# Altium schematic symbol library ConnectMedical.SchLib: 88 symbols
Pins are listed as number, name and electrical type; pins without a type are passive.

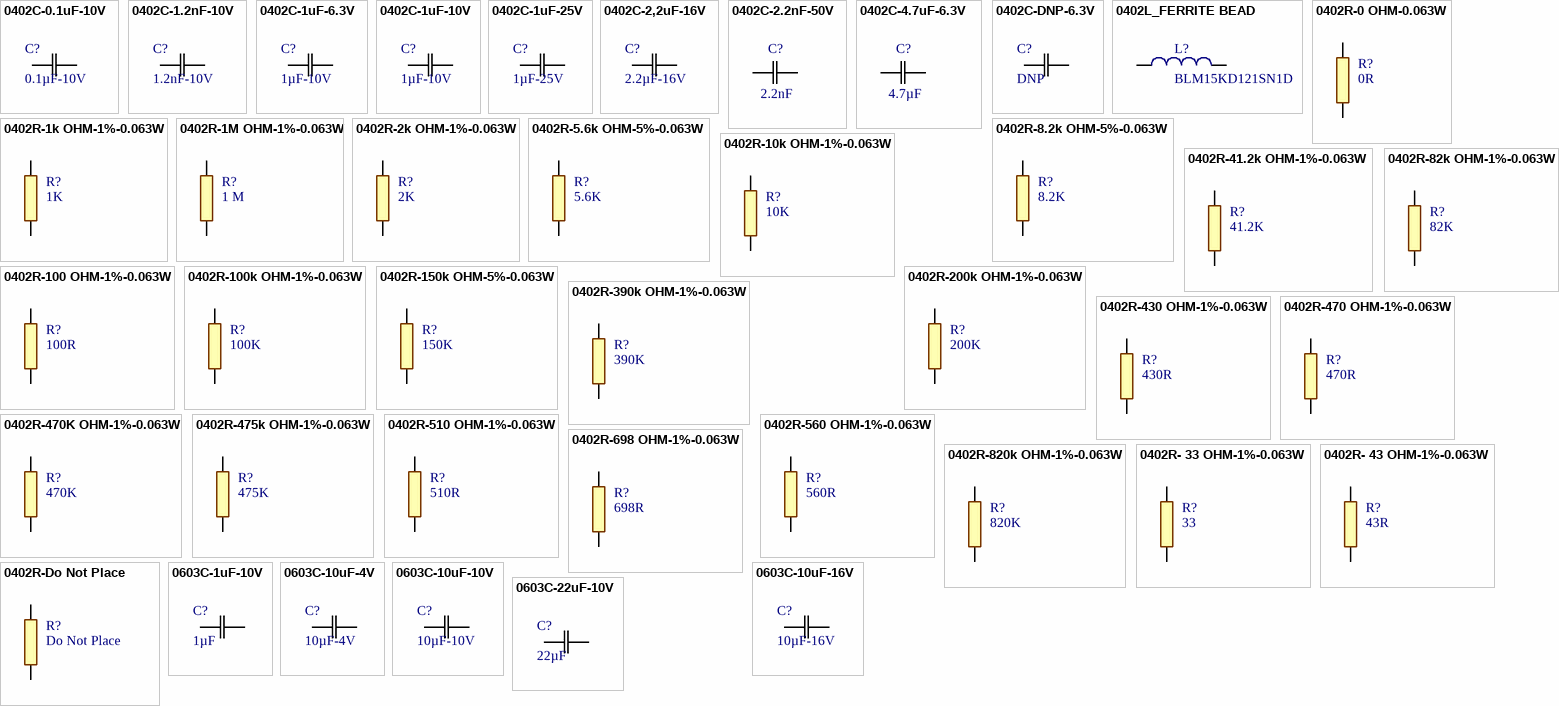
[diagram p0: symbols 0402C-0.1uF-10V to 0603C-22uF-10V]

## 0402C-0.1uF-10V
designator C?, comment 0.1µF-10V
0.1µF ±10% 10V X5R Ceramic Capacitor 0402; Manufacturer Part Number: CC0402KRX5R6BB104; Manufacturer: Yageo; Capacitance: 0.1µF; Digi-Key Part Number: 311-1336-1-ND; PackageReference: 0402; Temperature Coefficient: X5R; Tolerance: 10%; Voltage - Rated: 10V
footprint 0402C_HIGH_DENSITY
pins: 1, 2

## 0402C-1.2nF-10V
designator C?, comment 1.2nF-10V
1.2nF ±10% 10V U2J Ceramic Capacitor 0402; Manufacturer Part Number: GRM1557U1A122JA01D; Manufacturer: Murata Electronics North America; Tolerance: 5%; Capacitance: 1.2nF; Digi-Key Part Number: 490-6272-1-ND; PackageReference: 0402; Temperature Coefficient: U2J; Voltage - Rated: 10V
footprint 0402C_HIGH_DENSITY
pins: 1, 2

## 0402C-1uF-6.3V
designator C?, comment 1µF-10V
1µF ±10% 6.3V X5R Ceramic Capacitor 0402; Manufacturer Part Number: JMK105BJ105KV-F; Manufacturer: Taiyo Yuden; Capacitance: 1µF; Digi-Key Part Number: 587-1231-1-ND; PackageReference: 0402; Temperature Coefficient: X5R; Tolerance: 10%; Voltage - Rated: 6.3V
footprint 0402C-GENERIC (Chip Capacitor, 2-Leads, Body 1.00x0.50mm, IPC Medium Density)
pins: 1, 2

## 0402C-1uF-10V
designator C?, comment 1µF-10V
1µF ±10% 10V X5R Ceramic Capacitor 0402; Manufacturer Part Number: CC0402KRX5R6BB105; Manufacturer: Yageo; Capacitance: 1µF; Digi-Key Part Number: 311-1439-1-ND; PackageReference: 0402; Temperature Coefficient: X5R; Tolerance: 10%; Voltage - Rated: 10V
footprint 0402C_HIGH_DENSITY
pins: 1, 2

## 0402C-1uF-25V
designator C?, comment 1µF-25V
CAP CER 1UF 25V X5R 0402; Manufacturer Part Number: TMK105BJ105KV-F; Manufacturer: Taiyo Yuden; Capacitance: 1µF; Tolerance: 10%; Digi-Key Part Number: 587-5947-1-ND; PackageReference: 0402; Temperature Coefficient: X5R; Voltage - Rated: 25V
footprint 0402C_HIGH_DENSITY
pins: 1, 2

## 0402C-2,2uF-16V
designator C?, comment 2.2µF-16V
CAP CER 2.2UF 16V X5R 0402; Manufacturer Part Number: GRM155R61C225KE44D; Manufacturer: Murata Electronics North America; Capacitance: 2.2µF; Tolerance: 10%; Digi-Key Part Number: 490-10455-2-ND; PackageReference: 0402; Temperature Coefficient: X5R; Voltage - Rated: 16V
footprint 0402C_HIGH_DENSITY
pins: 1, 2

## 0402C-2.2nF-50V
designator C?, comment 2.2nF
2.2nF ±10% 50V X5R Ceramic Capacitor 0402; Manufacturer Part Number: GRM155R61H222KA01D; Manufacturer: Murata Electronics North America; Capacitance: 2.2nF; Digi-Key Part Number: 490-8257-1-ND; PackageReference: 0402; Temperature Coefficient: X5R; Tolerance: 10%; Voltage - Rated: 50V
footprint 0402C_HIGH_DENSITY
pins: 1, 2

## 0402C-4.7uF-6.3V
designator C?, comment 4.7µF
4.7µF ±10% 6.3V X5R Ceramic Capacitor 0402; Manufacturer Part Number: C1005X5R0J475K050BC; Manufacturer: TDK Corporation; Capacitance: 4.7µF; Digi-Key Part Number: 445-5947-1-ND; PackageReference: 0402; Temperature Coefficient: X5R; Tolerance: 10%; Voltage - Rated: 6.3V
footprint 0402C_HIGH_DENSITY
pins: 1, 2

## 0402C-DNP-6.3V
designator C?, comment DNP  (no BOM)
Temperature Coefficient: X5R; Tolerance: 10%; Voltage - Rated: 6.3V; Capacitance: DNP; PackageReference: 0402
footprint 0402C-GENERIC (Chip Capacitor, 2-Leads, Body 1.00x0.50mm, IPC Medium Density)
pins: 1, 2

## 0402L_FERRITE BEAD
designator L?, comment BLM15KD121SN1D
FERRITE BEAD 120 OHM 0402 1LN; Manufacturer: Murata Electronics North America; Number of Lines: 1; Current Rating (Max): 1.5A; Impedance @ Frequency: 120 Ohm @ 100MHz; DC Resistance (DCR) (Max): 70 mOhm; Filter Type: Signal Line; Digi-Key Part Number: 490-15015-1-ND; Manufacturer Part Number: BLM15KD121SN1D; ComponentLink1Description: Datasheet; ComponentLink1URL: http://www.murata.com/en-us/products/productdata/8796740059166/ENFA0018.pdf; PackageReference: 0402 (1005 Metric)
footprint 0402L_High Speed (SMD EMI Suppression Ferrite  Bead, body 1.0mmx0.5mm)
pins: 1, 2

## 0402R-0 OHM-0.063W
designator R?, comment 0R
RES SMD 0.0OHM JUMPER 1/16W 0402; Manufacturer: Yageo; Manufacturer Part Number: RC0402JR-070RL; Resistance (Ohms): 0 Ohm; Power: 0.063W; GENERIC_OK: YES; Digi-Key Part Number: 311-0.0JRCT-ND; PackageReference: 0402; Features: Moisture Resistant
footprint 0402R-GENERIC (0402 RES)
pins: 1, 2

## 0402R-1k OHM-1%-0.063W
designator R?, comment 1K
RES SMD 1kOHM 1% 1/16W 0402; Manufacturer: Yageo; Manufacturer Part Number: RC0402FR-071KL; Power: 0.063W; GENERIC_OK: YES; Digi-Key Part Number: 311-1.00KLRCT-ND; Resistance (Ohms): 1KOhm; Tolerance: 1%; PackageReference: 0402
footprint 0402R-GENERIC (0402 RES)
pins: 1, 2

## 0402R-1M OHM-1%-0.063W
designator R?, comment 1 M
RES SMD 1M OHM 1% 1/16W 0402; Manufacturer: Yageo; Manufacturer Part Number: RC0402FR-071ML; Resistance (Ohms): 1 MOhms; Power: 0.063W; GENERIC_OK: YES; Digi-Key Part Number: 311-1.00MLRTR-ND; Tolerance: 1%; PackageReference: 0402
footprint 0402R-GENERIC (0402 RES)
pins: 1, 2

## 0402R-2k OHM-1%-0.063W
designator R?, comment 2K
RES SMD 2kOHM 1% 1/16W 0402; Manufacturer: Yageo; Manufacturer Part Number: RC0402FR-072KL; Power: 0.063W; GENERIC_OK: YES; Digi-Key Part Number: 311-2KLRCT-ND; Resistance (Ohms): 2KOhm; Tolerance: 1%; PackageReference: 0402; Features: Moisture Resistant
footprint 0402R-GENERIC (0402 RES)
pins: 1, 2

## 0402R-5.6k OHM-5%-0.063W
designator R?, comment 5.6K
RES SMD 5.6kOHM 5% 1/16W 0402; Manufacturer: Yageo; Manufacturer Part Number: RC0402JR-075K6L; Power: 0.063W; GENERIC_OK: YES; Digi-Key Part Number: 311-5.6KJRCT-ND; Resistance (Ohms): 5.6KOhm; Tolerance: 5%; PackageReference: 0402
footprint 0402R-GENERIC (0402 RES)
pins: 1, 2

## 0402R-8.2k OHM-5%-0.063W
designator R?, comment 8.2K
RES SMD 8.2kOHM 5% 1/16W 0402; Manufacturer: Yageo; Manufacturer Part Number: RC0402JR-078K2L; Power: 0.063W; GENERIC_OK: YES; Digi-Key Part Number: 311-8.2KJRCT-ND; Resistance (Ohms): 8.2KOhm; Tolerance: 5%; PackageReference: 0402
footprint 0402R-GENERIC (0402 RES)
pins: 1, 2

## 0402R-10k OHM-1%-0.063W
designator R?, comment 10K
RES SMD 10kOHM 1% 1/16W 0402; Manufacturer: Yageo; Manufacturer Part Number: RC0402FR-0710KL; Power: 0.063W; GENERIC_OK: YES; Digi-Key Part Number: 311-10.0KLRCT-ND; Resistance (Ohms): 10KOhm; Tolerance: 1%; PackageReference: 0402; Features: Moisture Resistant
footprint 0402R-GENERIC (0402 RES)
pins: 1, 2

## 0402R-41.2k OHM-1%-0.063W
designator R?, comment 41.2K
RES SMD 41.2kOHM 1% 1/16W 0402; Manufacturer: Yageo; Manufacturer Part Number: RC0402FR-0741K2L; Power: 0.063W; GENERIC_OK: YES; Digi-Key Part Number: YAG3155CT-ND; Resistance (Ohms): 41.2KOhm; Tolerance: 1%; PackageReference: 0402
footprint 0402R-GENERIC (0402 RES)
pins: 1, 2

## 0402R-82k OHM-1%-0.063W
designator R?, comment 82K
RES SMD 82kOHM 1% 1/16W 0402; Manufacturer: Yageo; Manufacturer Part Number: RC0402FR-0782KL; Power: 0.063W; GENERIC_OK: YES; Digi-Key Part Number: 311-82.0KLRCT-ND; Resistance (Ohms): 82KOhm; Tolerance: 1%; PackageReference: 0402
footprint 0402R-GENERIC (0402 RES)
pins: 1, 2

## 0402R-100 OHM-1%-0.063W
designator R?, comment 100R
RES SMD 100OHM 1% 1/16W 0402; Manufacturer: Yageo; Manufacturer Part Number: RC0402FR-07100RL; Power: 0.063W; GENERIC_OK: YES; Digi-Key Part Number: 311-100LRCT-ND; Resistance (Ohms): 100Ohm; Tolerance: 1%; PackageReference: 0402; Features: Moisture Resistant
footprint 0402R-GENERIC (0402 RES)
pins: 1, 2

## 0402R-100k OHM-1%-0.063W
designator R?, comment 100K
RES SMD 100K OHM 1% 1/16W 0402; Manufacturer: Yageo; Manufacturer Part Number: RC0402FR-07100KL; Power: 0.063W; GENERIC_OK: YES; Digi-Key Part Number: 311-100KLRTR-ND; Resistance (Ohms): 100KOhm; Tolerance: 1%; PackageReference: 0402; Features: Moisture Resistant
footprint 0402R-GENERIC (0402 RES)
pins: 1, 2

## 0402R-150k OHM-5%-0.063W
designator R?, comment 150K
RES SMD 150kOHM 5% 1/16W 0402; Manufacturer: Yageo; Manufacturer Part Number: RC0402JR-07150KL; Power: 0.063W; GENERIC_OK: YES; Digi-Key Part Number: 311-150KJRCT-ND; Resistance (Ohms): 150KOhm; Tolerance: 5%; PackageReference: 0402; Features: Moisture Resistant
footprint 0402R-GENERIC (0402 RES)
pins: 1, 2

## 0402R-200k OHM-1%-0.063W
designator R?, comment 200K
RES SMD 200kOHM 1% 1/16W 0402; Manufacturer: Yageo; Manufacturer Part Number: AC0402FR-07200KL; Power: 0.063W; GENERIC_OK: YES; Digi-Key Part Number: YAG3452CT-ND; Resistance (Ohms): 200KOhm; Tolerance: 1%; PackageReference: 0402; Features: Moisture Resistant
footprint 0402R-GENERIC (0402 RES)
pins: 1, 2

## 0402R-390k OHM-1%-0.063W
designator R?, comment 390K
RES SMD 390kOHM 1% 1/16W 0402; Manufacturer: Yageo; Manufacturer Part Number: RC0402FR-07390KL; Power: 0.063W; GENERIC_OK: YES; Digi-Key Part Number: YAG3143CT-ND; Resistance (Ohms): 390KOhm; Tolerance: 1%; PackageReference: 0402; Features: Moisture Resistant
footprint 0402R-GENERIC (0402 RES)
pins: 1, 2

## 0402R-430 OHM-1%-0.063W
designator R?, comment 430R
RES SMD 430 OHM 0.1% 1/16W 0402; Manufacturer: Yageo; Manufacturer Part Number: RT0402BRD07430RL; Resistance (Ohms): 430Ohm; Tolerance: 1%; Power: 0.063W; GENERIC_OK: YES; Digi-Key Part Number: YAG1430CT-ND; PackageReference: 0402; Features: Moisture Resistant
footprint 0402R-GENERIC (0402 RES)
pins: 1, 2

## 0402R-470 OHM-1%-0.063W
designator R?, comment 470R
RES SMD 470 OHM 1% 1/16W 0402; Resistance (Ohms): 470 Ohm; Power: 0.063W; GENERIC_OK: YES; Tolerance: 1%; PackageReference: 0402; Features: Moisture Resistant
footprint 0402R-GENERIC (0402 RES)
pins: 1, 2

## 0402R-470K OHM-1%-0.063W
designator R?, comment 470K
RES SMD 470K OHM 1% 1/16W 0402; Power: 0.063W; GENERIC_OK: YES; Resistance (Ohms): 470KOhm; Tolerance: 1%; PackageReference: 0402; Features: Moisture Resistant
footprint 0402R-GENERIC (0402 RES)
pins: 1, 2

## 0402R-475k OHM-1%-0.063W
designator R?, comment 475K
RES SMD 475K OHM 1% 1/16W 0402; Manufacturer: Yageo; Manufacturer Part Number: RC0402FR-07475KL; Power: 0.063W; GENERIC_OK: YES; Digi-Key Part Number: 311-475KLRCT-ND; Resistance (Ohms): 475KOhm; Tolerance: 1%; PackageReference: 0402; Features: Moisture Resistant
footprint 0402R-GENERIC (0402 RES)
pins: 1, 2

## 0402R-510 OHM-1%-0.063W
designator R?, comment 510R
RES SMD 510OHM 1% 1/16W 0402; Power: 0.063W; GENERIC_OK: YES; Resistance (Ohms): 510Ohm; Tolerance: 1%; PackageReference: 0402; Features: Moisture Resistant
footprint 0402R-GENERIC (0402 RES)
pins: 1, 2

## 0402R-560 OHM-1%-0.063W
designator R?, comment 560R
RES SMD 560OHM 1% 1/16W 0402; Manufacturer: Samsung Electro-Mechanics America, Inc.; Manufacturer Part Number: RC1005F561CS; Power: 0.063W; GENERIC_OK: YES; Digi-Key Part Number: 1276-3473-1-ND; Resistance (Ohms): 560Ohm; Tolerance: 1%; PackageReference: 0402; Features: Moisture Resistant
footprint 0402R-GENERIC (0402 RES)
pins: 1, 2

## 0402R-698 OHM-1%-0.063W
designator R?, comment 698R
RES SMD 698 OHM 1% 1/16W 0402; Manufacturer: Yageo; Manufacturer Part Number: RC0402FR-07698RL; Resistance (Ohms): 698Ohm; Power: 0.063W; GENERIC_OK: YES; Digi-Key Part Number: YAG3215CT-ND; Tolerance: 1%; PackageReference: 0402; Features: Moisture Resistant
footprint 0402R-GENERIC (0402 RES)
pins: 1, 2

## 0402R-820k OHM-1%-0.063W
designator R?, comment 820K
RES SMD 820kOHM 1% 1/16W 0402; Manufacturer: Yageo; Manufacturer Part Number: RC0402FR-07820KL; Power: 0.063W; GENERIC_OK: YES; Digi-Key Part Number: YAG3240CT-ND; Resistance (Ohms): 820KOhm; Tolerance: 1%; PackageReference: 0402
footprint 0402R-GENERIC (0402 RES)
pins: 1, 2

## 0402R- 33 OHM-1%-0.063W
designator R?, comment 33
RES SMD  33 OHM 1% 1/16W 0402; Manufacturer: Yageo; Manufacturer Part Number: RC0402FR-0733RL; Resistance (Ohms): 33Ohm; Power: 0.063W; GENERIC_OK: YES; Digi-Key Part Number: 311-33.0LRCT-ND; Tolerance: 1%; PackageReference: 0402; Features: Moisture Resistant
footprint 0402R-GENERIC (0402 RES)
pins: 1, 2

## 0402R- 43 OHM-1%-0.063W
designator R?, comment 43R
RES SMD 43 OHM 5% 1/16W 0402; Manufacturer: Yageo; Manufacturer Part Number: RC0402JR-0743RL; Resistance (Ohms): 43Ohm; Tolerance: 1%; Power: 0.063W; GENERIC_OK: YES; Digi-Key Part Number: 311-43JRCT-ND; PackageReference: 0402; Features: Moisture Resistant
footprint 0402R-GENERIC (0402 RES)
pins: 1, 2

## 0402R-Do Not Place
designator R?, comment Do Not Place  (no BOM)
footprint 0402R-GENERIC - DNP (0402 RES DNP)
pins: 1, 2

## 0603C-1uF-10V
designator C?, comment 1µF
1µF ±10% 10V X7R Ceramic Capacitor 0603; Manufacturer Part Number: CL10B105KP8NNNC; Manufacturer: Samsung Electro-Mechanics America, Inc.; Capacitance: 1µF; Digi-Key Part Number: 1276-1946-1-ND; PackageReference: 0603; Temperature Coefficient: X7R; Tolerance: 10%; Voltage - Rated: 10V
footprint 0603C-GENERIC
pins: 1, 2

## 0603C-10uF-4V
designator C?, comment 10µF-4V
10µF ±10% 4V X6S Ceramic Capacitor 0603; Manufacturer Part Number: GRM188C80G106KE47D; Manufacturer: Murata Electronics North America; Capacitance: 10µF; Digi-Key Part Number: 490-10469-1-ND; PackageReference: 0603; Temperature Coefficient: X6S; Tolerance: 10%; Voltage - Rated: 4V
footprint 0603C-GENERIC
pins: 1, 2

## 0603C-10uF-10V
designator C?, comment 10µF-10V
10µF ±10% 10V X5R Ceramic Capacitor 0603; Manufacturer Part Number: GRM188R61A106KE69D; Manufacturer: Murata Electronics North America; Capacitance: 10µF; Digi-Key Part Number: 490-10474-1-ND; PackageReference: 0603; Temperature Coefficient: X5R; Tolerance: 10%; Voltage - Rated: 10V
footprint 0603C-GENERIC
pins: 1, 2

## 0603C-10uF-16V
designator C?, comment 10µF-16V
10µF ±10% 16V X5R Ceramic Capacitor 0603; Manufacturer Part Number: GRT188R61C106KE13D; Manufacturer: Murata Electronics North America; Capacitance: 10µF; Digi-Key Part Number: 490-12317-1-ND; PackageReference: 0603; Temperature Coefficient: X5R; Tolerance: 10%; Voltage - Rated: 16V; ClassName: 3D_IGNORE
footprint 0603C_HIGH_DENSITY
pins: 1, 2

## 0603C-22uF-10V
designator C?, comment 22µF
22µF ±20% 10V Ceramic Capacitor X5R 0603; Manufacturer Part Number: C1608X5R1A226M080AC; Manufacturer: TDK Corporation; Capacitance: 22µF; Digi-Key Part Number: 445-9077-2-ND; PackageReference: 0603; Temperature Coefficient: X5R; Tolerance: 20%; Voltage - Rated: 10V
footprint 0603C-GENERIC
pins: 1, 2

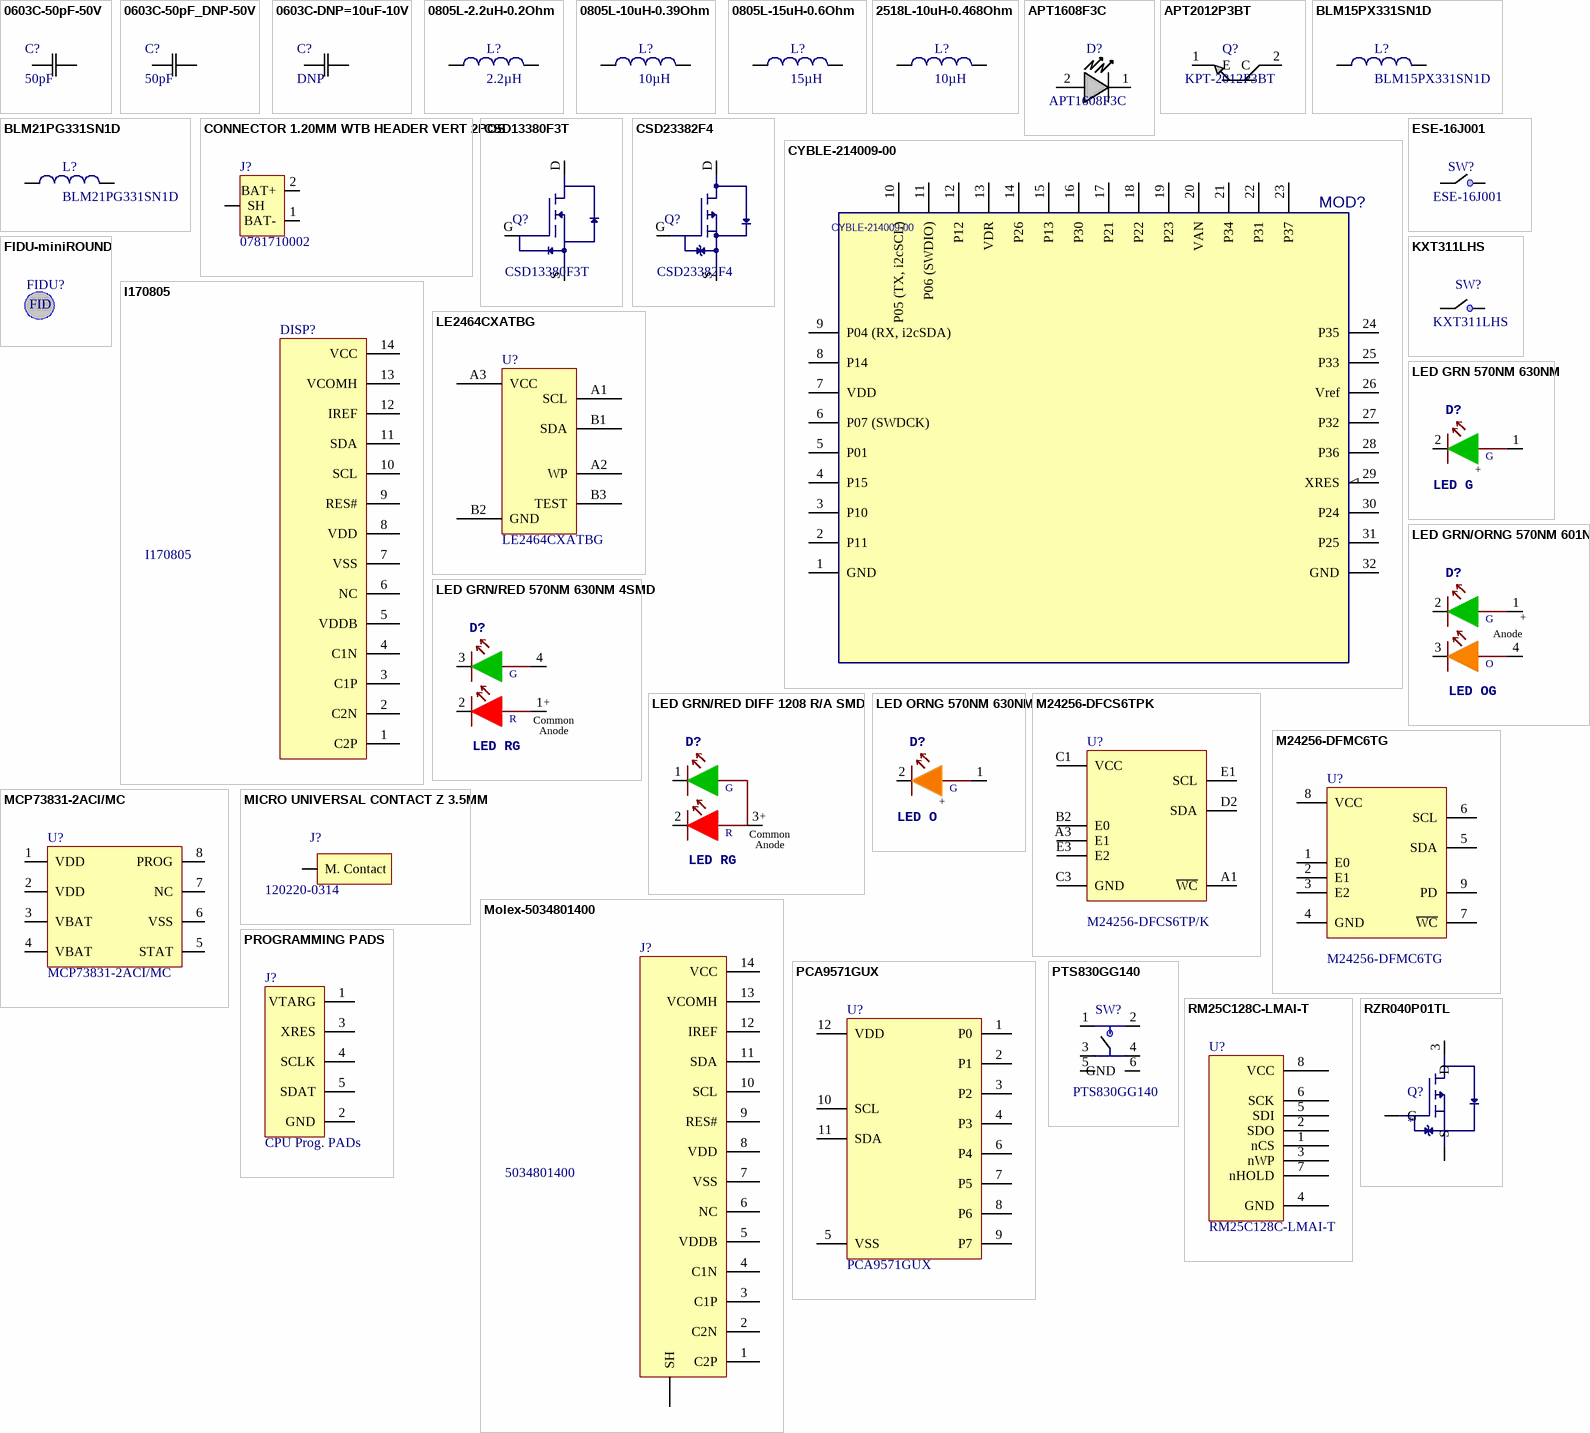
[diagram p1: symbols 0603C-50pF-50V to RZR040P01TL]

## 0603C-50pF-50V
designator C?, comment 50pF
CAP CER 50PF 50V NP0 0603; Manufacturer Part Number: 06035A500JAT2A; Manufacturer: AVX Corporation; Temperature Coefficient: C0G, NP0; Tolerance: ±5%; Capacitance: 50pF; Digi-Key Part Number: 478-10324-1-ND; PackageReference: 0603; Voltage - Rated: 50V
footprint 0603C_HIGH_DENSITY
pins: 1, 2

## 0603C-50pF_DNP-50V
designator C?, comment 50pF  (no BOM)
DNP; Manufacturer Part Number: 06035A500JAT2A; Manufacturer: AVX Corporation; Temperature Coefficient: C0G, NP0; Tolerance: ±5%; Voltage - Rated: 50V; Capacitance: 50pF; Digi-Key Part Number: 478-10324-1-ND; PackageReference: 0603
footprint 0603C_HIGH_DENSITY
pins: 1, 2

## 0603C-DNP=10uF-10V
designator C?, comment DNP
Manufacturer Part Number: GRM188R61A106KE69D; Manufacturer: Murata Electronics North America; Capacitance: 10µF; Temperature Coefficient: X5R; Tolerance: 10%; Voltage - Rated: 10V; Digi-Key Part Number: 490-10474-1-ND; PackageReference: 0603
footprint 0603C-GENERIC
pins: 1, 2

## 0805L-2.2uH-0.2Ohm
designator L?, comment 2.2µH  (graphical)
FIXED IND 2.2UH 600MA 0.2OHM SMD; Manufacturer: TDK Corporation; Manufacturer Part Number: MLZ2012M2R2HTD25; Number of Lines: 1; Tolerance: 20%; Digi-Key Part Number: 445-17077-1-ND; Impedance: 2.2µH; Current Rating (Max): 600mA; ComponentLink1Description: Datasheet; ComponentLink1URL: https://www.digikey.com/product-detail/en/tdk-corporation/MLZ2012M2R2HTD25/445-17077-2-ND/4743205; PackageReference: 0805
footprint 0805L_HIGH_DENSITY
pins: 1, 2

## 0805L-10uH-0.39Ohm
designator L?, comment 10µH
FIXED IND 10UH 500MA 300 MOHM; Manufacturer: TDK Corporation; Manufacturer Part Number: MLZ2012N100LT000; Number of Lines: 1; Current Rating (Max): 350mA; Tolerance: 20%; DCRDC Resistance (DCR): 390 mOhm Max; Digi-Key Part Number: 445-6762-1-ND; Impedance: 10µH; ComponentLink1Description: Datasheet; ComponentLink1URL: https://product.tdk.com/info/en/catalog/datasheets/inductor_commercial_decoupling_mlz2012_en.pdf; PackageReference: 0805
footprint 0805L_HIGH_DENSITY
pins: 1, 2

## 0805L-15uH-0.6Ohm
designator L?, comment 15µH
FIXED IND 15UH 350MA 0.6 OHM SMD; Manufacturer: TDK Corporation; Manufacturer Part Number: MLZ2012N150LT000; Number of Lines: 1; Tolerance: 20%; DCRDC Resistance (DCR): 611 mOhm Max; Digi-Key Part Number: 445-6763-1-ND; Impedance: 15µH; Current Rating (Max): 350mA; ComponentLink1Description: Datasheet; ComponentLink1URL: https://www.digikey.com/product-detail/en/tdk-corporation/MLZ2012N150LT000/445-6763-2-ND/2523501; PackageReference: 0805
footprint 0805L_HIGH_DENSITY
pins: 1, 2

## 2518L-10uH-0.468Ohm
designator L?, comment 10µH
FIXED IND 10UH 680MA 468 MOHM; Manufacturer: Taiyo Yuden; Manufacturer Part Number: CBC2518T100M; Tolerance: 20%; DCRDC Resistance (DCR): 468 mOhm Max; Digi-Key Part Number: 587-1613-1-ND; Impedance: 10µH; Current Rating (Max): 680mA; ComponentLink1Description: Datasheet; ComponentLink1URL: http://www.yuden.co.jp/productdata/catalog/en/wound02_e.pdf; PackageReference: 1007 (2518 Metric)
footprint 2518L_HIGH_DENSITY (Chip Inductor, 2-Leads, Body 2.50x1.80mm, IPC High Density)
pins: 1, 2

## APT1608F3C
designator D?
0603 INFRARED DIODE; Manufacturer: Kingbright; Wavelength: 940nm; Type: Infrared (IR); Current - DC Forward (If) (Max): 50mA; Radiant Intensity (Ie) Min @ If: 1.2mW/sr @ 20mA; Voltage - Forward (Vf) (Typ): 1.2V; Viewing Angle: 120°; Supplier 1: Digi-Key; Supplier Part Number 1: 754-1433-1-ND; Manufacturer Part Number: APT1608F3C; PackageReference: 0603; Mounting Type: Surface Mount; Operating Temperature: -40°C ~ 85°C (TA); ComponentLink1Description: Datasheet; ComponentLink1URL: http://www.kingbrightusa.com/images/catalog/SPEC/APT1608F3C.pdf; Digi-Key Part Number: 754-1433-1-ND; ClassName: 3D_EXPORT
footprint APT1608F3C (EMITTER IR 940NM 50MA 603)
pins: 1 K "Cathode", 2 "Anode"

## APT2012P3BT
designator Q?, comment KPT-2012P3BT
0805 PHOTOTRANSISTOR; Manufacturer: Kingbright; Voltage - Collector Emitter Breakdown (Max): 30V; Current - Collector (Ic) (Max): 1mA; Current - Dark (Id) (Max): 100nA; Power - Max: 100mW; Supplier 1: Digi-Key; Supplier Part Number 1: 754-1436-1-ND; ComponentLink1Description: Datasheet; ComponentLink1URL: https://www.kingbrightusa.com/images/catalog/spec/APT2012P3BT.pdf; Manufacturer Part Number: KPT-2012P3BT; PackageReference: 0805; Digi-Key Part Number: 754-1436-1-ND; ClassName: 3D_EXPORT
footprint APT2012P3BT
pins: 1 E "Emitter", 2 C "Collector"

## BLM15PX331SN1D
designator L?
0402 Ferrite Bead 330Ohm@100MHz; Manufacturer: Murata Electronics North America; Number of Lines: 1; Current Rating (Max): 1.2A; Filter Type: Power Line; Tolerance: ±5%; DC Resistance (DCR) (Max): 150 mOhm; Digi-Key Part Number: 490-11022-1-ND; Manufacturer Part Number: BLM15PX331SN1D; ComponentLink1Description: Datasheet; ComponentLink1URL: http://www.murata.com/en-global/products/productdata/8796733767710/S0580E.pdf; PackageReference: 0402 (1005 Metric); Impedance @ FRequency: 330 Ohm @ 100MHz
footprint 0402L_High Speed (SMD EMI Suppression Ferrite  Bead, body 1.0mmx0.5mm)
pins: 1, 2

## BLM21PG331SN1D
designator L?
0805 Ferrite Bead 330Ohm@100MHz; Manufacturer: Murata Electronics North America; Number of Lines: 1; Current Rating (Max): 1.5A; Filter Type: Power Line; DC Resistance (DCR) (Max): 70 mOhm; Digi-Key Part Number: 490-5988-1-ND; Manufacturer Part Number: BLM21PG331SN1D; ComponentLink1Description: Datasheet; ComponentLink1URL: http://www.murata.com/en-global/products/productdata/8796733767710/S0580E.pdf; PackageReference: 0805 (2012 Metric); Impedance @ FRequency: 330 Ohm @ 100MHz
footprint 0805L_HIGH_DENSITY - Hybrid 0402
pins: 1, 2

## CONNECTOR 1.20MM WTB HEADER VERT 2POS
designator J?, comment 0781710002
1.20MM WTB HEADER VERT 2POS; Manufacturer: Molex, LLC; ComponentLink1URL: http://www.molex.com/pdm_docs/sd/781710002_sd.pdf; ComponentLink1Description: Datasheet; Manufacturer Part Number: 0781710002; Mounting Type: Surface Mount; Digi-Key Part Number: WM4459CT-ND; ClassName: 3D_EXPORT
footprint PAD 0781710002 (PAD 1.20MM WTB HEADER VERT 2POS)
pins: 1 BAT-, 2 BAT+, 3 SH

## CSD13380F3T
designator Q?
12V N-CHANNEL FEMTOFET MOSFET; Manufacturer: Texas Instruments; Digi-Key Part Number: CSD13380F3T; Manufacturer Part Number: CSD13380F3T; FET Type: N-Channel; Package / Case: 3-XFDFN; ComponentLink1Description: Datasheet; ComponentLink1URL: http://www.ti.com/lit/ds/symlink/csd13380f3.pdf
footprint CSD13380F3-DFN40P69X35-3L (DFN, 3-Leads, Body 0.60x0.69mm, Pitch 0.40mm, IPC High Density)
pins: D 3, G 1, S 2

## CSD23382F4
designator Q?
MOSFET P-CH 12V 22A 3PICOSTAR; Manufacturer: Texas Instruments; FET Type: P-Channel; Digi-Key Part Number: 296-40003-1-ND; Manufacturer Part Number: CSD23382F4; Package / Case: 3-XFDFN; ComponentLink1Description: Datasheet; ComponentLink1URL: http://www.ti.com/lit/ds/symlink/csd23382f4.pdf
footprint CSD23382F4 -DFN65P100X35-3L (DFN, 3-Leads, Body 0.60x1.00mm, Pitch 0.65mm, IPC High Density)
pins: D 3, G 1, S 2

## CYBLE-214009-00
designator MOD?
BLE PSoC Module 4.1; Manufacturer: Cypress Semiconductor Corp; Protocol: Bluetooth v4.1; Frequency: 2.4GHz; Data Rate: 1Mbps; Power - Output: 3dBm; Sensitivity: -91dBm; Voltage - Supply: 1.7 V ~ 5.5 V; Current - Receiving: 16.4mA; Current - Transmitting: 15.6mA; Supplier 1: Digi-Key; Supplier Part Number 1: 428-3809-ND; ComponentLink1URL: http://www.cypress.com/file/223701/download; ComponentLink1Description: Datasheet; Manufacturer Part Number: CYBLE-214009-00; Digi-Key Part Number: 428-3809-ND; ClassName: 3D_EXPORT
footprint CYBLE-014008-00
footprint CYBLE-014008-00_MinKeepOut
pins: 1 GND (power), 2 P11 "GPIO-SCB1(SPI_SS1)", 3 P10 "GPIO", 4 P15 "GPIO-SCB0 (TX, SPI_MISO, I2C_SCL)", 5 P01 "GPIO-SCB1(TX, SPI_MISO, I2C_SCL)", 6 P07 (SWDCK) "GPIO-SWDCLK", 7 VDD (power) "Digital Power (1.71 to 5.5V)", 8 P14 "GPIO-SCB0 (RX, SPI_MOSI, I2C_SDA)", 9 P04 (RX, i2cSDA) "GPIO-SCB0(RX, SPI_MOSI, I2C_SDA)", 10 P05 (TX, i2cSCL) "GPIO-SCB0 (TX, SPI_MISO, I2C_SCL)", 11 P06 (SWDIO) "GPIO-SWDIO", 12 P12 "GPIO-SCB1(SPI_SS2)", 13 VDR (power) "Radio Power (1.9 to 5.5V)", 14 P26 "GPIO-", 15 P13 "GPIO-SCB1(SPI_SS3)", 16 P30 "GPIO-SCB0(RX, I2C_SDA)", 17 P21 "GPIO-SCB0(SPI_SS2)", 18 P22 "GPIO-SCB0(SPI_SS3)", 19 P23 "GPIO", 20 VAN (power) "Analog Power (1.71 to 5.5V)", 21 P34 "GPIO-SCB1(RX, I2C_SDA)", 22 P31 "GPIO-SCB0(TX, I2C_SCL)", 23 P37 "GPIO-SCB1(CTS)", 24 P35 "GPIO-SCB1(TX, I2C_SCL)", 25 P33 "GPIO-SCB0(CTS)", 26 Vref (power) "Reference Input Volyage (1.9 to 5.5V)", 27 P32 "GPIO-SCB0(RTS)", 28 P36 "GPIO-SCB1(RTS)", 29 XRES "External Reset Active Low", 30 P24 "GPIO", 31 P25 "GPIO", 32 GND (power)

## ESE-16J001
designator SW?
SWITCH DETECTOR SPST-NO 10MA 5V; Manufacturer: Panasonic Electronic Components; Operating Force: 25gf; Mechanical Life: 50,000 Cycles; ComponentLink1URL: https://na.industrial.panasonic.com/sites/default/pidsa/files/downloads/files/panasonic_ese-16_new_product_introduction.pdf; ComponentLink1Description: Datasheet; Manufacturer Part Number: ESE-16J001; Contact Rating @ Voltage: 5V; Mounting Type: Surface Mount; Digi-Key Part Number: P14266SCT-ND; ClassName: 3D_EXPORT
footprint ESE-16J001 (SWITCH DETECTOR SPST-NO 10MA 5V)
pins: 1, 3

## FIDU-miniROUND
designator FIDU?  (value not drawn)  (no BOM)
ClassName: FIDU
footprint FIDU-MINI-ROUND
text: FID

## I170805
designator DISP?  (no BOM)
Connection to OLED Display
footprint I170805 (OLED Display using I2C)
pins: 1 C2P, 2 C2N, 3 C1P, 4 C1N, 5 VDDB, 6 NC, 7 VSS (power), 8 VDD, 9 RES#, 10 SCL, 11 SDA, 12 IREF, 13 VCOMH, 14 VCC

## KXT311LHS
designator SW?
SPST Tactile Switch; Manufacturer: C&K; Contact Rating @ Voltage: 0.05A @ 12VDC; Actuator Height off PCB, Vertical: 0.60mm; Operating Force: 100gf; Mechanical Life: 300,000 Cycles; Supplier 1: Digi-Key; Supplier Part Number 1: CKN10777TR-ND; ComponentLink1URL: http://www.ckswitches.com/media/1465/kxt3.pdf; ComponentLink1Description: Datasheet; Manufacturer Part Number: KXT 311 LHS; Mounting Type: Surface Mount; Digi-Key Part Number: CKN10777CT-ND; ClassName: 3D_EXPORT
footprint KXT311LHS_B (SWITCH TACTILE SPST-NO 0.05A 12V)
pins: 1, 2

## LE2464CXATBG
designator U?
IC EEPROM 64KBIT 400KHZ 6WLCSP; Manufacturer: ON Semiconductor; Memory Interface: I²C; Voltage - Supply: 1.7 V ~ 3.6 V; Memory Type: Non-Volatile; Write Cycle Time - Word, Page: 5ms; ComponentLink1URL: http://www.onsemi.cn/PowerSolutions/document/LE2464C-D.PDF; ComponentLink1Description: Datasheet; Manufacturer Part Number: LE2464CXATBG; PackageReference: 6-XFBGA, WLCSP; Memory Forma: EEPROM; Clock Frequency: 400kHz; Digi-Key Part Number: LE2464CXATBGOSDKR-ND
footprint LE2464C-WLCSP6 (BGA, 6-Leads, Body 1.20x0.80mmx0.33mm, Pitch 0.40mm)
pins: A1 SCL, A2 WP, A3 VCC, B1 SDA, B2 GND, B3 TEST

## LED GRN 570NM 630NM
designator D?, comment LED G
LED GRN 570NM 630NM 4SMD; Color: Green; ComponentLink1Description: Datasheet
pins: 1, 2 G
text: +

## LED GRN/ORNG 570NM 601NM
designator D?, comment LED OG
LED GRN/ORNG; Manufacturer: Kingbright; Manufacturer Part Number: KPHBM-2012CGKSEKC; Color: Green, orange; Voltage - Forward (Vf) (Typ): O 2.1V, G 2.1V; Current - Test: O 30mA, G 30mA; Wavelength - Peak: O 601nm, G 570nm; Millicandela Rating: O 250mcd, G 80mcd; ComponentLink1Description: Datasheet; ComponentLink1URL: http://www.kingbright.com/attachments/file/psearch/000/00/00/KPHBM-2012CGKSEKC(Ver.11A).pdf; Digi-Key Part Number: 1686080
footprint KPHBM-2012CGKSEKC (LED, Green, Orange, SMD)
pins: 1, 2 G, 3, 4
text: +; Anode; O

## LED GRN/RED 570NM 630NM 4SMD
designator D?, comment LED RG
LED GRN/RED 570NM 630NM 4SMD; Manufacturer: Kingbright; Manufacturer Part Number: APBD3224LSURKCGKC; Color: Red, Green; Voltage - Forward (Vf) (Typ): 1.9V Green, 1.8V Red; Current - Test: 2mA Green, 2mA Red; Wavelength - Peak: 574nm Green, 645nm Red; Millicandela Rating: 30mcd Green, 30mcd Red; ComponentLink1Description: Datasheet; ComponentLink1URL: http://www.kingbrightusa.com/images/catalog/SPEC/APBD3224LSURKCGKC.pdf; Digi-Key Part Number: 754-1962-1-ND
footprint LED GRN/RED 570NM 630NM 4SMD (LED_APBD3224LSURKCGKC)
pins: 1, 2 G, 3, 4
text: +; R; Common; Anode

## LED GRN/RED DIFF 1208 R/A SMD
designator D?, comment LED RG
LED GRN/RED DIFF 1208 R/A SMD; Manufacturer: Stanley Electric Co; Manufacturer Part Number: BRPY1211F-TR; Color: Red, Green; Voltage - Forward (Vf) (Typ): 2.1V Green, 1.7V Red; Current - Test: 20mA Green, 20mA Red; Wavelength - Peak: 570nm Green, 660nm Red; Millicandela Rating: 8.8mcd Green, 17.6mcd Red; ComponentLink1Description: Datasheet; ComponentLink1URL: https://media.digikey.com/pdf/Data%20Sheets/Stanley%20Electric%20PDFs/1211F_Series.pdf; Digi-Key Part Number: 404-1089-1-ND; ClassName: 3D_EXPORT
footprint LED GRN/RED DIFF 1208 R/A SMD (LED_BRPY1211F-TR)
pins: 1 R, 2 G, 3
text: +; Common; Anode

## LED ORNG 570NM 630NM
designator D?, comment LED O
LED ORNG 570NM 630NM 4SMD; Color: Green; ComponentLink1Description: Datasheet
pins: 1, 2 G
text: +

## M24256-DFCS6TPK
designator U?, comment M24256-DFCS6TP/K
IC EEPROM 256KBIT 1MHZ 8WLCSP; Manufacturer: STMicroelectronics; Memory Interface: I²C; Voltage - Supply: 1.7 V ~ 5.5 V; Memory Type: Non-Volatile; Write Cycle Time - Word, Page: 5ms; ComponentLink1URL: http://www.st.com/content/ccc/resource/technical/document/datasheet/b6/38/3e/3f/fe/a6/48/c2/CD00001891.pdf/files/CD00001891.pdf/jcr:content/translations/en.CD00001891.pdf; ComponentLink1Description: Dataseet; Manufacturer Part Number: M24256-DFCS6TP/K; PackageReference: 8-WFBGA; Memory Forma: EEPROM; Clock Frequency: 1MHz; Digi-Key Part Number: 497-13611-1-ND
footprint BGAS8_M24256-DFCS6_1 (BGA, 8-Leads, Body 1.37x1.28mmx0.58mm, Pitch 0.40mm)
pins: A1 ~{WC}, A3 E1, B2 E0, C1 VCC, C3 GND, D2 SDA, E1 SCL, E3 E2

## M24256-DFMC6TG
designator U?
IC EEPROM 256KBIT 400KHZ 8UFDFPN; Manufacturer: STMicroelectronics; Memory Interface: I²C; Voltage - Supply: 1.7 V ~ 5.5 V; Memory Type: Non-Volatile; Clock Frequency: 1MHz; Write Cycle Time - Word, Page: 5ms; ComponentLink1URL: http://www.st.com/content/ccc/resource/technical/document/datasheet/b6/38/3e/3f/fe/a6/48/c2/CD00001891.pdf/files/CD00001891.pdf/jcr:content/translations/en.CD00001891.pdf; ComponentLink1Description: Dataseet; Manufacturer Part Number: M24256-DFMC6TG; PackageReference: 8-UFDFPN; Memory Forma: EEPROM; Digi-Key Part Number: 497-15742-1-ND
footprint UFDFPN8-M24256-DFMC6TG (PSON, 8-Leads, Body 2.00x3.00mm, Pitch 0.50mm, Thermal Pad 1.40x1.40mm, IPC High Density)
pins: 1 E0, 2 E1, 3 E2, 4 GND, 5 SDA, 6 SCL, 7 ~{WC}, 8 VCC, 9 PD

## MCP73831-2ACI/MC
designator U?
IC Li-Ion Charger Controller; Manufacturer: Microchip Technology; Battery Chemistry: Lithium-Ion/Polymer; Battery Pack Voltage: 4.2V; Charge Current - Max: 500mA; Current - Charging: Constant - Programmable; Supplier 1: Digi-Key; Supplier Part Number 1: MCP73831-2ACI/MC-ND; ComponentLink1URL: http://ww1.microchip.com/downloads/en/DeviceDoc/20001984g.pdf; ComponentLink1Description: Datasheet; Manufacturer Part Number: MCP73831-2ACI/MC; PackageReference: 8-VFDFN Exposed Pad; Digi-Key Part Number: MCP73831-2ACI/MC-ND
footprint MCP73831 (IC CONTROLLER LI-ION 4.2V 8DFN)
pins: 1 VDD (power), 2 VDD (power), 3 VBAT, 4 VBAT, 5 STAT, 6 VSS, 7 NC, 8 PROG

## MICRO UNIVERSAL CONTACT Z 3.5MM
designator J?, comment 120220-0314
MICRO UNIVERSAL CONTACT Z 3.5MM; Manufacturer: ITT Cannon, LLC; ComponentLink1URL: https://media.digikey.com/pdf/Data%20Sheets/ITT%20PDFs/120220-0314_Dwg.pdf; ComponentLink1Description: Datasheet; Manufacturer Part Number: 120220-0314; Mounting Type: Surface Mount; Digi-Key Part Number: 1003-2383-1-ND; ClassName: 3D_EXPORT
footprint PAD 1.0x1.95mm (MICRO UNIVERSAL CONTACT Z 3.5MM)
pins: 1 M. Contact

## Molex-5034801400
designator J?, comment 5034801400
Connector molex to OLED Display; Manufacturer: Molex, LLC; Number of Positions: 14; Pitch: 0.020" (0.50mm); Flat Flex Type: FFC, FPC; FFC, FCB Thickness: 0.30mm; Mating Cycles: 10; Manufacturer Part Number: 5034801400; Digi-Key Part Number: WM1442CT-ND; ComponentLink1Description: Datasheet; ComponentLink1URL: http://www.molex.com/pdm_docs/sd/5034801400_sd.pdf; Contact Finish: Gold; ClassName: 3D_EXPORT
footprint 5034801400 (Pads for Molex connector to OLED Display using I2C)
pins: 1 C2P, 2 C2N, 3 C1P, 4 C1N, 5 VDDB, 6 NC, 7 VSS (power), 8 VDD, 9 RES#, 10 SCL, 11 SDA, 12 IREF, 13 VCOMH, 14 VCC, SH

## PCA9571GUX
designator U?
IC I/O EXPANDER I2C 12XQFN; Manufacturer: NXP USA Inc.; Voltage - Supply: 1.1 V ~ 3.6 V; Clock Frequency: 1MHz; Interface: I²C; Output Type: Push-Pull; ComponentLink1URL: http://www.nxp.com/docs/en/data-sheet/PCA9571.pdf; ComponentLink1Description: Datasheet; Manufacturer Part Number: PCA9571GUX; PackageReference: 12-XFQFN; Digi-Key Part Number: 568-12400-1-ND
footprint PCA9571-XQFN12 (QFN, 12-Leads, Body 1.70x2.00mm, Pitch 0.40mm, IPC High Density)
pins: 1 P0, 2 P1, 3 P2, 4 P3, 5 VSS, 6 P4, 7 P5, 8 P6, 9 P7, 10 SCL, 11 SDA, 12 VDD

## PROGRAMMING PADS
designator J?, comment CPU Prog. PADs  (no BOM)
CPU Programming PADs; ClassName: TP
footprint PAD PROGRAMMING (Programming Points)
pins: 1 VTARG, 2 GND, 3 XRES, 4 SCLK, 5 SDAT

## PTS830GG140
designator SW?
SPST Tactile Switch; Manufacturer Part Number: PTS830GG140G SMTR LFS; Manufacturer: C&K; Contact Rating @ Voltage: 0.05A @ 12VDC; Actuator Height off PCB, Vertical: 1.40mm; Operating Force: 450gf; Mechanical Life: 200,000 Cycles; ComponentLink1URL: https://www.ckswitches.com/media/1478/pts830.pdf; ComponentLink1Description: Datasheet; Mounting Type: Surface Mount; Digi-Key Part Number: CKN10590CT-ND; ClassName: 3D_EXPORT
footprint PTS830GG140GSMTRLFS (SWITCH TACTILE SPST-NO 0.05A 12V)
pins: 1, 2, 3 (power), 4 (power), 5 (power), 6 GND (power)

## RM25C128C-LMAI-T
designator U?
EEPROM Non-volatile Serial SPI bus; Manufacturer: Adesto Technologies; Voltage - Supply: 1.65 V ~ 3.6 V; Clock Frequency: 10MHz; Supplier 1: Digi-Key; Supplier Part Number 1: 1265-1205-1-ND; ComponentLink1URL: http://www.adestotech.com/wp-content/uploads/DS-RM25C128C-L-077.pdf; ComponentLink1Description: Datasheet; Manufacturer Part Number: RM25C128C-LMAI-T; PackageReference: 8-UFDFN Exposed Pad; Memory Interface: SPI; Memory Forma: EEPROM; Memory Type: Non-Volatile; Digi-Key Part Number: 1265-1205-1-ND
footprint RM25C128C-LMAI-T (IC EEPROM 128KBIT 10MHZ 8DFN)
pins: 1 nCS, 2 SDO, 3 nWP, 4 GND, 5 SDI, 6 SCK, 7 nHOLD, 8 VCC

## RZR040P01TL
designator Q?
P-Channel 12V 4A (Ta) 1W (Ta); Manufacturer: Rohm Semiconductor; Manufacturer Part Number: RZR040P01TL; Current - Continuous Drain (Id): 4A (Ta); Rds On (Max): 30 mOhm; Digi-Key Part Number: RZR040P01TLCT-ND; FET Type: P-Channel; PackageReference: SC-96
footprint SOT-346T-RZR040P01TL (SOTFL, 3-Leads, Body 2.90x2.80mm, Pitch 0.95mm, IPC Medium Density)
pins: 1 G, 2 S, 3 D

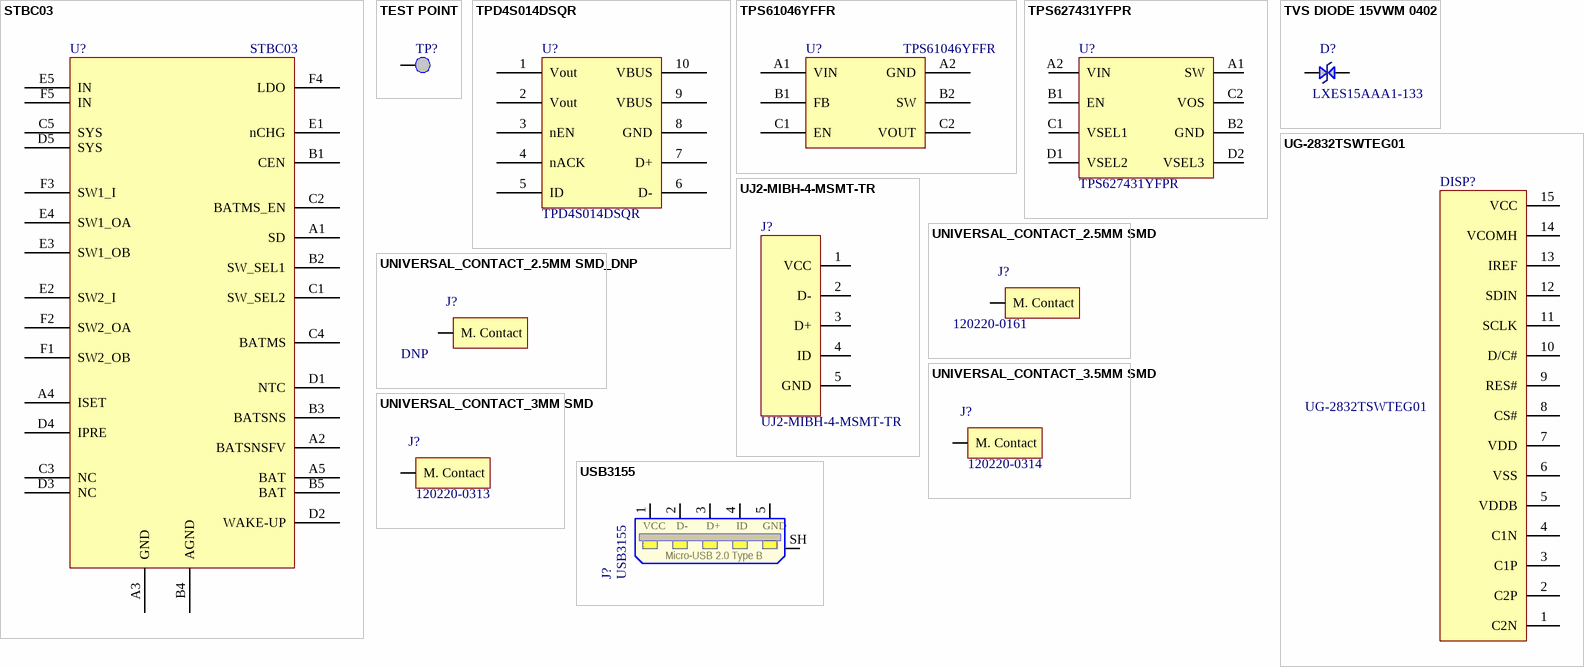
[diagram p2: symbols STBC03 to USB3155]

## STBC03
designator U?
Li-Ion linear battery charger; Manufacturer Part Number: STBC03JR; Manufacturer: STMicroelectronics; Battery Chemistry: Lithium-Ion/Polymer; Battery Pack Voltag: 4.2V; Voltage - Supply (Max): 5.4V; Charge Current - Max: 650mA; ComponentLink1URL: http://www.st.com/content/ccc/resource/technical/document/datasheet/group3/05/ea/e8/4e/a7/a6/4a/c6/DM00338132/files/DM00338132.pdf/jcr:content/translations/en.DM00338132.pdf; ComponentLink1Description: Datasheet; PackageReference: 30-UFBGA, FCBGA; Digi-Key Part Number: 497-17241-1-ND
footprint STBC03 (Li-Ion linear battery charger with LDO and load switches)
pins: A1 SD, A2 BATSNSFV, A3 GND, A4 ISET, A5 BAT, B1 CEN, B2 SW_SEL1, B3 BATSNS, B4 AGND, B5 BAT, C1 SW_SEL2, C2 BATMS_EN, C3 NC, C4 BATMS, C5 SYS, D1 NTC, D2 WAKE-UP, D3 NC, D4 IPRE, D5 SYS, E1 nCHG, E2 SW2_I, E3 SW1_OB, E4 SW1_OA, E5 IN, F1 SW2_OB, F2 SW2_OA, F3 SW1_I, F4 LDO, F5 IN

## TEST POINT
designator TP?  (value not drawn)  (no BOM)
Testing Poiny; ClassName: TP
footprint PAD TEST POINT (Testing Point)
pins: 1 Test Point

## TPD4S014DSQR
designator U?
USB Charger Port Protection; Manufacturer: Texas Instruments; Supplier 1: Digi-Key; Supplier Part Number 1: 296-29093-1-ND; ComponentLink1URL: http://www.ti.com/lit/ds/symlink/tpd4s014.pdf; ComponentLink1Description: Datasheet; Manufacturer Part Number: TPD4S014DSQR; PackageReference: 10-WFDFN Exposed Pad; Type: Overvoltage Protection Controller; Digi-Key Part Number: 296-29093-1-ND
footprint TPD4S014DSQR (IC USB PORT PROTECTION 10SON)
pins: 1 Vout, 2 Vout, 3 nEN, 4 nACK, 5 ID, 6 D-, 7 D+, 8 GND, 9 VBUS, 10 VBUS

## TPS61046YFFR
designator U?
Boost converter 28V; Manufacturer: Texas Instruments; Voltage - Supply (Min): 1.8V; Voltage - Supply (Max): 5.5V; Voltage - Output: 4.5 V ~ 28 V; Current - Output / Channe: 1.2A (Switch); Frequency: 1.05MHz; Supplier 1: Digi-Key; Supplier Part Number 1: 296-44337-1-ND; ComponentLink1URL: http://www.ti.com/lit/ds/symlink/tps61046.pdf; ComponentLink1Description: Datasheet; Manufacturer Part Number: TPS61046YFFR; PackageReference: 6-UFBGA, DSBGA; Digi-Key Part Number: 296-44337-1-ND
footprint TPS61046YFFR (IC LED DRVR RGLTR DIM)
pins: A1 VIN, A2 GND, B1 FB, B2 SW, C1 EN, C2 VOUT

## TPS627431YFPR
designator U?  (graphical)
Buck Converter; Manufacturer: Texas Instruments; Output Configuration: Positive; Function: Step-Down; Voltage - Input (Min): 2.15V; Voltage - Input (Max): 5.5V; Voltage - Output (Min/Fixed): 1.3V; Voltage - Output (Max): 3.1V; Current - Output: 400mA; Frequency - Switching: 1.2MHz; Synchronous Rectifier: Yes; ComponentLink1URL: http://www.ti.com/lit/ds/symlink/tps62743.pdf; ComponentLink1Description: Datasheet; Manufacturer Part Number: TPS627431YFPR; PackageReference: 8-XFBGA, DSBGA; Digi-Key Part Number: 296-44499-2-ND
footprint TPS627431YFPR (High Efficiency Buck Converter with Ultra-low)
pins: A1 SW, A2 VIN, B1 EN, B2 GND, C1 VSEL1, C2 VOS, D1 VSEL2, D2 VSEL3

## TVS DIODE 15VWM 0402
designator D?, comment LXES15AAA1-133
TVS DIODE 15VWM 0402; Manufacturer: Murata Electronics North America; Type: Zener; Capacitance @ Frequency: 0.05pF @ 1MHz; Voltage - Reverse Standoff (Typ): 15V; Manufacturer Part Number: LXES15AAA1-133; Digi-Key Part Number: 490-13209-1-ND; PackageReference: 0402
footprint 0402C-GENERIC (Chip Capacitor, 2-Leads, Body 1.00x0.50mm, IPC Medium Density)
pins: 1, 2

## UG-2832TSWTEG01
designator DISP?  (no BOM)
Connection to OLED Display
footprint UG-2832TSWTEG01_B (OLED Display)
pins: 1 C2N, 2 C2P, 3 C1P, 4 C1N, 5 VDDB, 6 VSS, 7 VDD (power), 8 CS#, 9 RES#, 10 D/C#, 11 SCLK, 12 SDIN, 13 IREF, 14 VCOMH, 15 VCC (power)

## UJ2-MIBH-4-MSMT-TR
designator J?
USB Micro B; Manufacturer: CUI Inc.; Specifications: USB 2.0; Current Rating: 0.5A, 1.8A; Voltage - Rated: 30VAC; Shielding: Shielded; Number of Contacts: 5; Gender: Receptacle; ComponentLink1URL: http://www.cui.com/product/resource/uj2-mibh-4-msmt.pdf; ComponentLink1Description: Datasheet; Manufacturer Part Number: UJ2-MIBH-4-MSMT-TR; Type: USB - micro B; Digi-Key Part Number: 102-4008-1-ND; Contact Finish: Gold; ClassName: 3D_EXPORT
footprint UJ2-MIBH-4-MSMT-TR (USB Connector)
pins: 1 VCC, 2 D-, 3 D+, 4 ID, 5 GND

## UNIVERSAL_CONTACT_2.5MM SMD
designator J?, comment 120220-0161
UNIVERSAL CONTACT 2.5MM SMD; Manufacturer: ITT Cannon, LLC; ComponentLink1URL: https://media.digikey.com/pdf/Data%20Sheets/ITT%20PDFs/Universal_Contact%202.5mm.pdf; ComponentLink1Description: Datasheet; Manufacturer Part Number: 120220-0161; Mounting Type: Surface Mount; Digi-Key Part Number: 1003-1009-1-ND; ClassName: 3D_EXPORT
footprint PAD 1.0x3.76mm (UNIVERSAL CONTACT 2.5MM SMD)
pins: 1 M. Contact

## UNIVERSAL_CONTACT_2.5MM SMD_DNP
designator J?, comment DNP  (no BOM)
UNIVERSAL CONTACT 2.5MM SMD; ComponentLink1Description: Datasheet; Mounting Type: Surface Mount; ClassName: 3D_EXPORT
footprint PAD 1.0x3.76mm - DNP (UNIVERSAL CONTACT 2.5MM SMD)
pins: 1 M. Contact

## UNIVERSAL_CONTACT_3.5MM SMD
designator J?, comment 120220-0314
MICRO UNIVERSAL CONTACT Z 3.5MM; Manufacturer: ITT Cannon, LLC; ComponentLink1Description: DWG; Manufacturer Part Number: 120220-0314; Mounting Type: Surface Mount; Digi-Key Part Number: 1003-2383-2-ND; ClassName: 3D_EXPORT; ComponentLink2Description: Datasheet; ComponentLink1URL: https://media.digikey.com/pdf/Data%20Sheets/ITT%20PDFs/Universal%20Contact%20Z%20Series.pdf
footprint PAD 1.0x1.95mm-MOD (UNIVERSAL CONTACT 3.5MM SMD)
pins: 1 M. Contact

## UNIVERSAL_CONTACT_3MM SMD
designator J?, comment 120220-0313
MICRO UNIVERSAL CONTACT Z 3.0MM; Manufacturer: ITT Cannon, LLC; ComponentLink1URL: https://media.digikey.com/pdf/Data%20Sheets/ITT%20PDFs/120220-0313_Dwg.pdf; ComponentLink1Description: DWG; Manufacturer Part Number: 120220-0313; Mounting Type: Surface Mount; Digi-Key Part Number: 1003-2382-1-ND; ClassName: 3D_EXPORT; ComponentLink2Description: Datasheet; ComponentLink1URL: https://media.digikey.com/pdf/Data%20Sheets/ITT%20PDFs/Universal%20Contact%20Z%20Series.pdf
pins: 1 M. Contact

## USB3155
designator J?
CONN RCPT USB-mini B 2.0 5POS SLD; Manufacturer: GCT (GLOBAL CONNECTOR TECHNOLOGY); Manufacturer Part Number: USB3155-30-A; Connector Type: USB - micro B; ComponentLink1Description: Datasheet; ComponentLink1URL: https://gct.co/files/drawings/usb3155.pdf; Digi-Key Part Number: 2537026-Farnell; ClassName: 3D_EXPORT; ComponentLink2Description: Product Specification; ComponentLink2URL: https://gct.co/files/specs/usb3155-spec.pdf
footprint USB3155 (USB Connector)
pins: 1 VCC, 2 D-, 3 D+, 4 ID, 5 GND, SH Shell
text: Micro-USB 2.0 Type B